# Altium schematic symbol library TRANS-EP-SDG.SCHLIB: 1 symbol
Pins are listed as number, name and electrical type; pins without a type are passive.

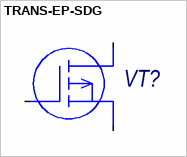
[diagram p0: symbol TRANS-EP-SDG]

## TRANS-EP-SDG
designator VT?
MOSFET
pins: 1 S, 2 D, 3 G